# EAGLE library part MFRC63002HN,151 (library MFRC63002HN_151)
NXP - MFRC63002HN,151 - RFID READ/WRITE, 13.56MHZ, HVQFN-32 Source: Datasheet <http://www.nxp.com/docs/en/data-sheet/MFRC630.pdf>
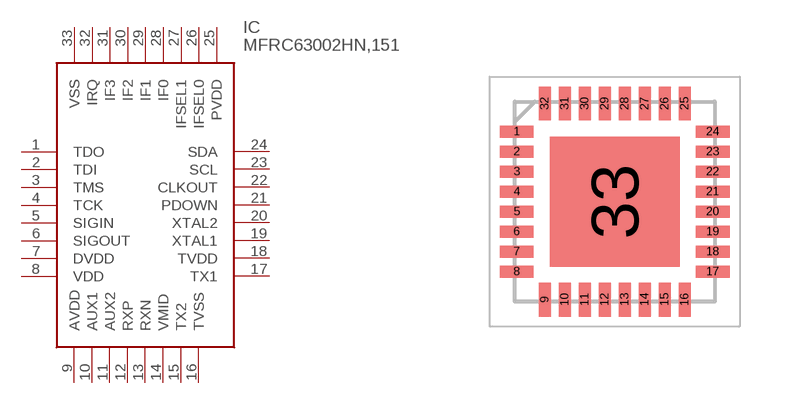
[diagram p0: symbol with the pads of QFN50P500X500X100-33N; footprint QFN50P500X500X100-33N]

Designator prefix IC

## MFRC63002HN,151 (Arrow_Part_Number: MFRC63002HN,151; Arrow_Price-Stock: https://www.arrow.com/en/products/mfrc63002hn151/nxp-semiconductors?region=nac; Description: NXP - MFRC63002HN,151 - RFID READ/WRITE, 13.56MHZ, HVQFN-32; Height: 1mm; Manufacturer_Name: NXP; Manufacturer_Part_Number: MFRC63002HN,151; Mouser_Part_Number: 771-MFRC63002HN151; Mouser_Price-Stock: https://www.mouser.co.uk/ProductDetail/NXP-Semiconductors/MFRC63002HN151?qs=NQoTdinTi9Gyn8oEeCX95Q%3D%3D)  [QFN50P500X500X100-33N]
1  TDO  out
2  TDI  in
3  TMS  in
4  TCK  in
5  SIGIN  in
6  SIGOUT  out
7  DVDD  pwr
8  VDD  pwr
9  AVDD  pwr
10  AUX1  out
11  AUX2  out
12  RXP  in
13  RXN  in
14  VMID  pwr
15  TX2  out
16  TVSS  pwr
17  TX1  out
18  TVDD  pwr
19  XTAL1  in
20  XTAL2  out
21  PDOWN  in
22  CLKOUT  out
23  SCL  out
24  SDA
25  PVDD  pwr
26  IFSEL0  in
27  IFSEL1  in
28  IF0
29  IF1
30  IF2
31  IF3
32  IRQ  out
33  VSS  pwr

## Footprint QFN50P500X500X100-33N (pad centres in mm)
HVQFN32
smd 0.85 x 0.3: 1 -2.45,1.75; 2 -2.45,1.25; 3 -2.45,0.75; 4 -2.45,0.25; 5 -2.45,-0.25; 6 -2.45,-0.75; 7 -2.45,-1.25; 8 -2.45,-1.75; 17 2.45,-1.75; 18 2.45,-1.25; 19 2.45,-0.75; 20 2.45,-0.25; 21 2.45,0.25; 22 2.45,0.75; 23 2.45,1.25; 24 2.45,1.75
smd 0.3 x 0.85: 9 -1.75,-2.45; 10 -1.25,-2.45; 11 -0.75,-2.45; 12 -0.25,-2.45; 13 0.25,-2.45; 14 0.75,-2.45; 15 1.25,-2.45; 16 1.75,-2.45; 25 1.75,2.45; 26 1.25,2.45; 27 0.75,2.45; 28 0.25,2.45; 29 -0.25,2.45; 30 -0.75,2.45; 31 -1.25,2.45; 32 -1.75,2.45
smd 3.25 x 3.25: 33 0,0